# EAGLE library part 74HCT4050_SOT109-1 (library prasad_component)
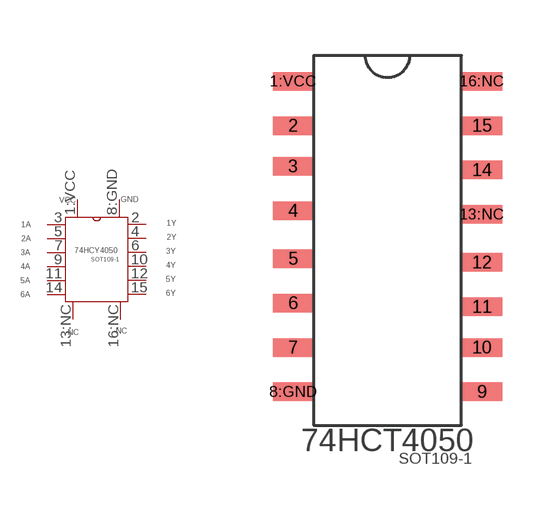
[diagram p1: symbol with the pads of 74HCT4050_SOT109-1; footprint 74HCT4050_SOT109-1]

Designator prefix -

## 74HCT4050_SOT109-1  [74HCT4050_SOT109-1]
1:VCC  P$1
2  P$2
3  P$3
4  P$4
5  P$5
6  P$6
7  P$7
8:GND  P$8
9  P$9
10  P$10
11  P$11
12  P$12
13:NC  P$13
14  P$14
15  P$15
16:NC  P$16

## Footprint 74HCT4050_SOT109-1 (pad centres in mm)
smd 1.1 x 0.5: 1:VCC -2.553,4.1; 2 -2.553,2.9; 3 -2.553,1.8; 4 -2.553,0.6; 5 -2.553,-0.7; 6 -2.553,-1.9; 7 -2.553,-3.1; 8:GND -2.553,-4.3; 9 2.553,-4.3; 10 2.553,-3.1; 11 2.553,-2; 12 2.553,-0.8; 13:NC 2.553,0.5; 14 2.553,1.7; 15 2.553,2.9; 16:NC 2.553,4.1